# EAGLE library part FM25V20A (library fm25v20a)
FM25V20A: 2-Mbit (256 K × 8) Serial (SPI) F-RAM The FM25V20A is a 2-Mbit nonvolatile memory employing an advanced ferroelectric process. A ferroelectric random access memory or F-RAM is nonvolatile and performs reads and writes similar to a RAM. It provides reliable data retention for 151 years while eliminating the complexities, overhead, and system-level reliability problems caused by serial flash, EEPROM, and other nonvolatile memories. Unlike serial flash and EEPROM, the FM25V20A performs write operations at bus speed. No write delays are incurred. Data is written to the memory array immediately after each byte is successfully transferred to the device. The next bus cycle can commence without the need for data polling. In addition, the product offers substantial write endurance compared with other nonvolatile memories. The FM25V20A is capable of supporting 1014 read/write cycles, or 100 million times more write cycles than EEPROM. These capabilities make the FM25V20A ideal for nonvolatile memory applications, requiring frequent or rapid writes. Examples range from data collection, where the number of write cycles may be critical, to demanding industrial controls where the long write time of serial flash or EEPROM can cause data loss. The FM25V20A provides substantial benefits to users of serial EEPROM or flash as a hardware drop-in replacement. The FM25V20A uses the high-speed SPI bus, which enhances the high-speed write capability of F-RAM technology. The device incorporates a read-only Device ID that allows the host to determine the manufacturer, product density, and product revision.
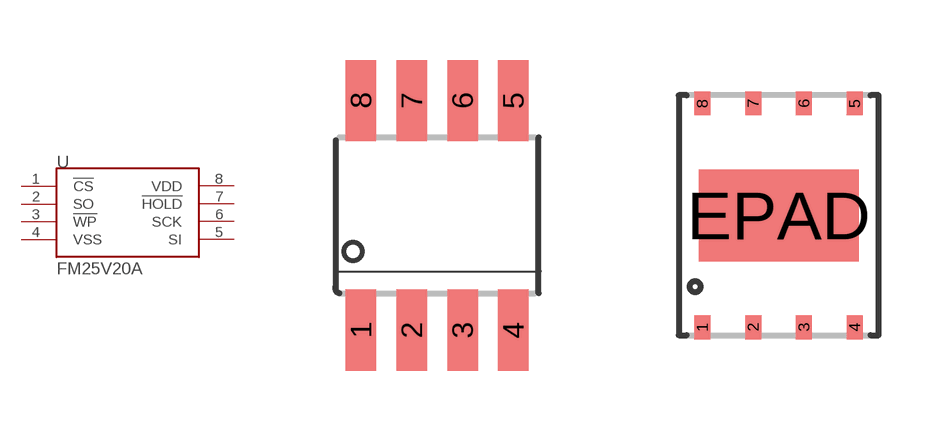
[diagram p0: symbol with the pads of SOIC-8; footprints SOIC-8, DFN8]

Designator prefix U

## FM25V20A  [SOIC-8]
1  !CS
2  SO
3  !WP
4  VSS
5  SI
6  SCK
7  !HOLD
8  VDD

## FM25V20ADFN8  [DFN8]
1  !CS
2  SO
3  !WP
4  VSS
5  SI
6  SCK
7  !HOLD
8  VDD
EPAD  VSS

## Footprint SOIC-8 (pad centres in mm)
smd 0.762 x 2.032: 1 -1.905,-2.873; 2 -0.635,-2.873; 3 0.635,-2.873; 4 1.905,-2.873; 5 1.905,2.873; 6 0.635,2.873; 7 -0.635,2.873; 8 -1.905,2.873

## Footprint DFN8 (pad centres in mm)
smd 0.4 x 0.6: 1 -1.905,-2.8; 2 -0.635,-2.8; 3 0.635,-2.8; 4 1.905,-2.8; 5 1.905,2.8; 6 0.635,2.8; 7 -0.635,2.8; 8 -1.905,2.8
smd 4 x 2.3: EPAD 0,0